# Altium footprint library NetTie.PcbLib: 4 footprints
Each footprint in its own frame and in the unit in brackets; x right, y up, seen from the top. Pads: shape width x height; smd on the part's side, far side on the other; paste and mask are expansions set on the pad; w line width, h text height; cw(c..) or ccw(c..) is an arc to the next point about the centre after c.
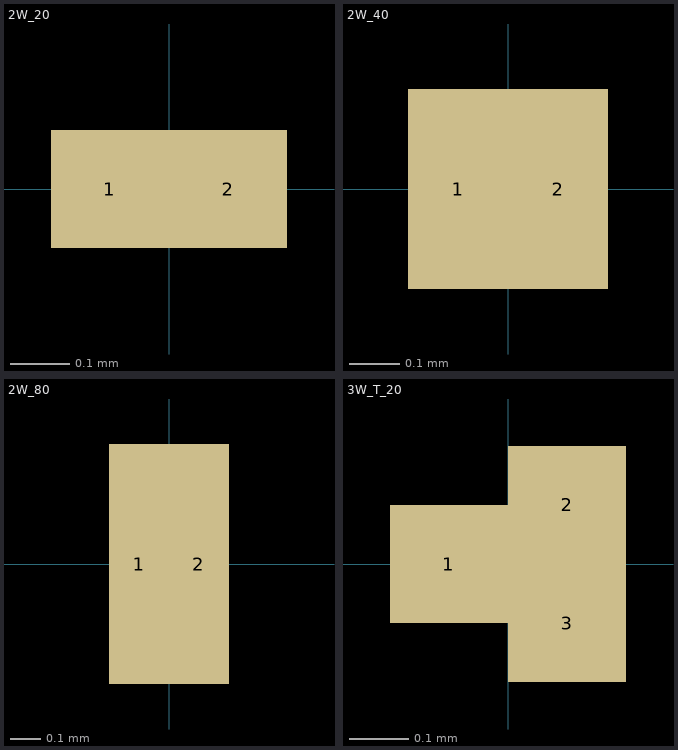
[diagram p0: the footprints below, top view; thin cyan lines are the x and y axes]

## 2W_20 [mm]
pads (2):
  rect 0.2x0.2 smd paste-10 mask-10: 1(-0.1,0) 2(0.1,0)

## 2W_40 [mm]
pads (2):
  rect 0.2x0.4 smd paste-10 mask-10: 1(-0.1,0) 2(0.1,0)

## 2W_80 [mm]
pads (2):
  rect 0.2x0.8 smd paste-10 mask-10: 1(-0.1,0) 2(0.1,0)

## 3W_T_20 [mm]
pads (3):
  rect 0.2x0.2 smd paste-10 mask-10: 1(-0.1,0) 2(0.1,0.1) 3(0.1,-0.1)